# EAGLE library part TES3 (library traco-electronic)
DC/DC Converter Single Output, 3W Source: Data sheet <http://www.tracopower.com/datasheet_g/tes3-d.pdf>
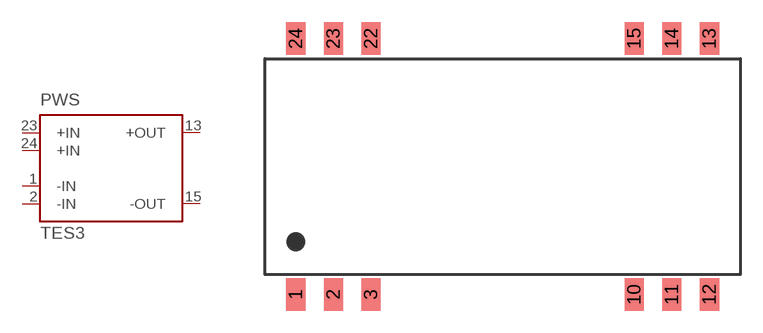
[diagram p3: symbol with the pads of TES3; footprint TES3]

Designator prefix PWS

## TES3-1210, TES3-1211, TES3-1212, TES3-2410, TES3-2411, TES3-2412, TES3-4810, TES3-4811, TES3-4812  [TES3]
1  -IN  in
2  -IN  in
13  +OUT  out
15  -OUT  out
23  +IN  in
24  +IN  in

## Footprint TES3 (pad centres in mm)
DC/DC-Konverter TES 3 Serie, 3 W Source: Data sheet <http://www.tracopower.com/datasheet_g/tes3-d.pdf>
smd 1.3 x 2.2: 1 -13.97,-8.636; 2 -11.43,-8.636; 3 -8.89,-8.636; 10 8.89,-8.636; 11 11.43,-8.636; 12 13.97,-8.636; 13 13.97,8.636; 14 11.43,8.636; 15 8.89,8.636; 22 -8.89,8.636; 23 -11.43,8.636; 24 -13.97,8.636